# EAGLE library part XCV400E_BG432 (library xilinx-xcv)
xcv400e_bg432 edit this description Auto generated by make-symbol-device-package-bsdl.ulp Rev. 26 Source: xcv400e_bg432.bsd
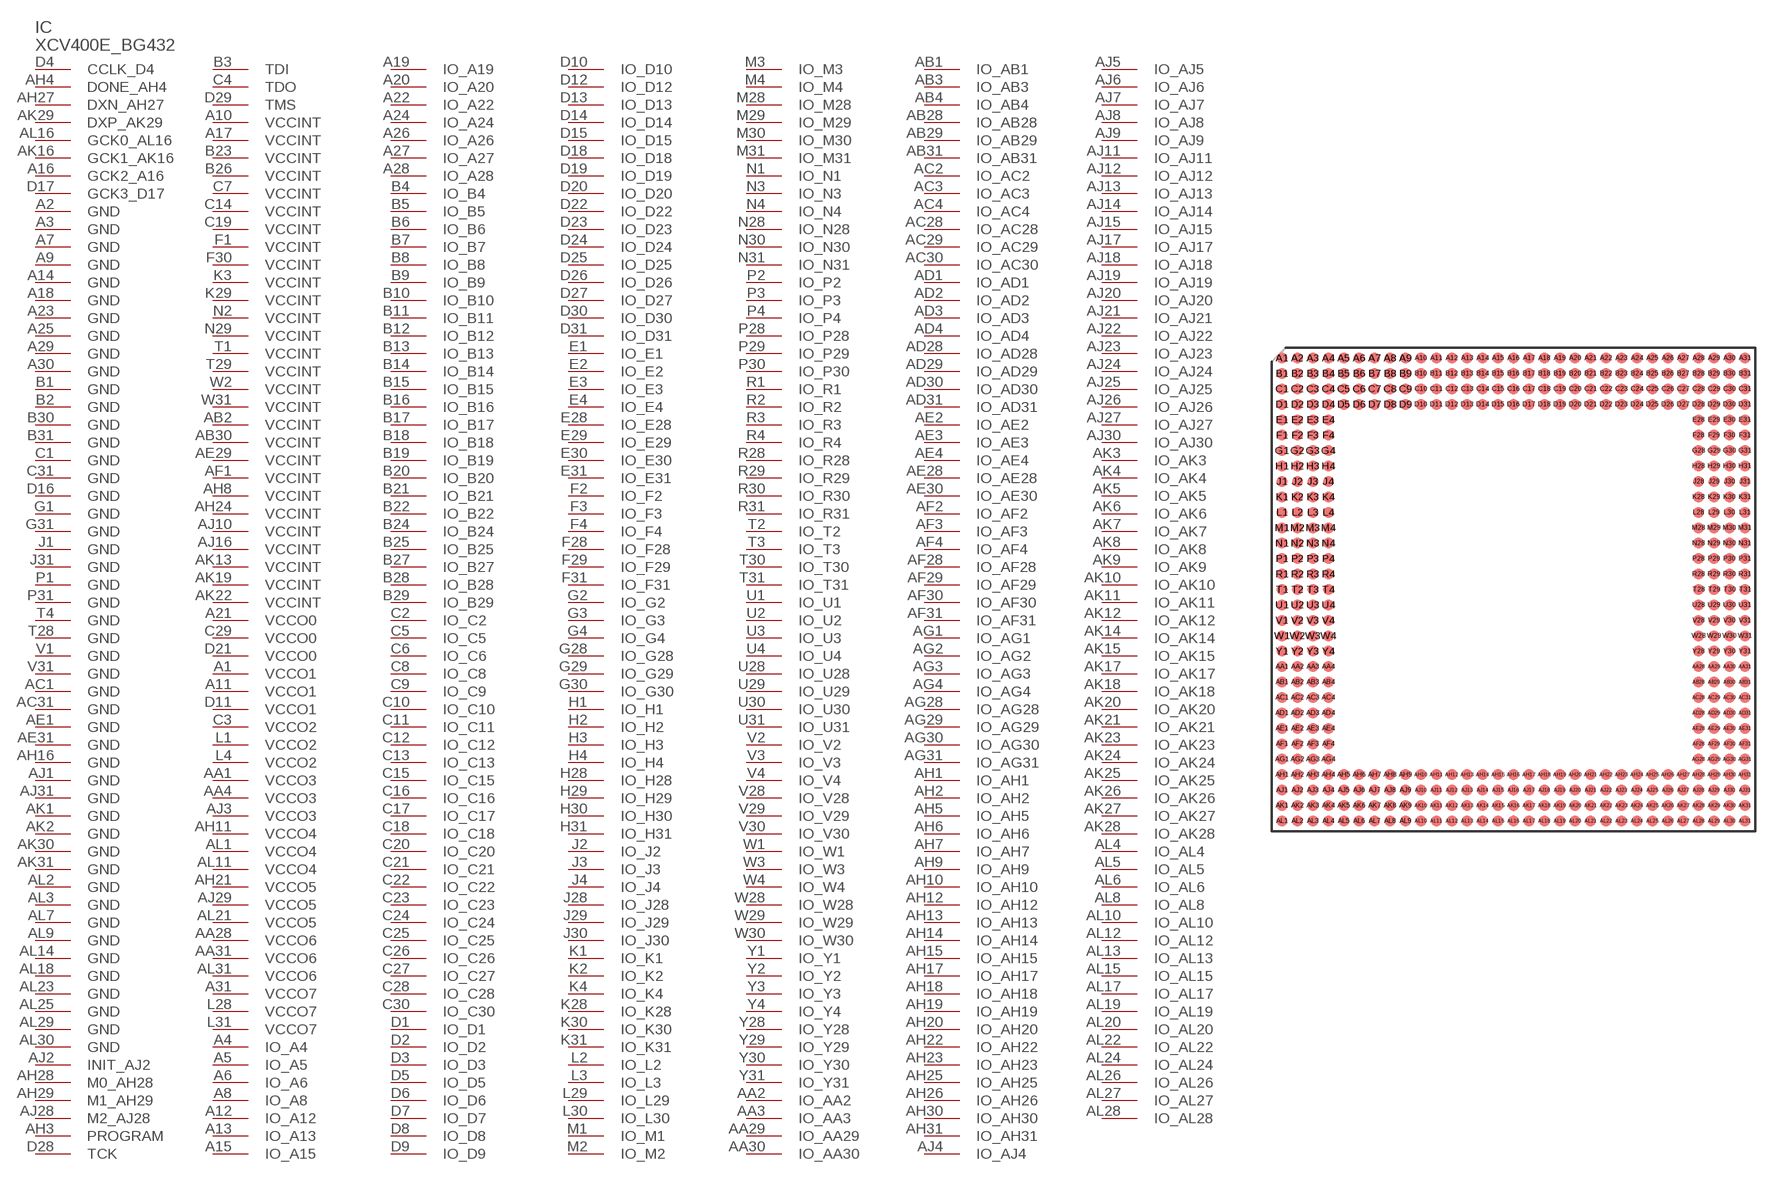
[diagram p98: symbol with the pads of BG432; footprint BG432]

Designator prefix IC

## XCV400E_BG432 (OC_FARNELL: unknown; OC_NEWARK: unknown)  [BG432]
A1  VCCO1  pwr
A2  GND  pwr
A3  GND  pwr
A4  IO_A4
A5  IO_A5
A6  IO_A6
A7  GND  pwr
A8  IO_A8
A9  GND  pwr
A10  VCCINT  pwr
A11  VCCO1  pwr
A12  IO_A12
A13  IO_A13
A14  GND  pwr
A15  IO_A15
A16  GCK2_A16  in
A17  VCCINT  pwr
A18  GND  pwr
A19  IO_A19
A20  IO_A20
A21  VCCO0  pwr
A22  IO_A22
A23  GND  pwr
A24  IO_A24
A25  GND  pwr
A26  IO_A26
A27  IO_A27
A28  IO_A28
A29  GND  pwr
A30  GND  pwr
A31  VCCO7  pwr
AA1  VCCO3  pwr
AA2  IO_AA2
AA3  IO_AA3
AA4  VCCO3  pwr
AA28  VCCO6  pwr
AA29  IO_AA29
AA30  IO_AA30
AA31  VCCO6  pwr
AB1  IO_AB1
AB2  VCCINT  pwr
AB3  IO_AB3
AB4  IO_AB4
AB28  IO_AB28
AB29  IO_AB29
AB30  VCCINT  pwr
AB31  IO_AB31
AC1  GND  pwr
AC2  IO_AC2
AC3  IO_AC3
AC4  IO_AC4
AC28  IO_AC28
AC29  IO_AC29
AC30  IO_AC30
AC31  GND  pwr
AD1  IO_AD1
AD2  IO_AD2
AD3  IO_AD3
AD4  IO_AD4
AD28  IO_AD28
AD29  IO_AD29
AD30  IO_AD30
AD31  IO_AD31
AE1  GND  pwr
AE2  IO_AE2
AE3  IO_AE3
AE4  IO_AE4
AE28  IO_AE28
AE29  VCCINT  pwr
AE30  IO_AE30
AE31  GND  pwr
AF1  VCCINT  pwr
AF2  IO_AF2
AF3  IO_AF3
AF4  IO_AF4
AF28  IO_AF28
AF29  IO_AF29
AF30  IO_AF30
AF31  IO_AF31
AG1  IO_AG1
AG2  IO_AG2
AG3  IO_AG3
AG4  IO_AG4
AG28  IO_AG28
AG29  IO_AG29
AG30  IO_AG30
AG31  IO_AG31
AH1  IO_AH1
AH2  IO_AH2
AH3  PROGRAM  in
AH4  DONE_AH4
AH5  IO_AH5
AH6  IO_AH6
AH7  IO_AH7
AH8  VCCINT  pwr
AH9  IO_AH9
AH10  IO_AH10
AH11  VCCO4  pwr
AH12  IO_AH12
AH13  IO_AH13
AH14  IO_AH14
AH15  IO_AH15
AH16  GND  pwr
AH17  IO_AH17
AH18  IO_AH18
AH19  IO_AH19
AH20  IO_AH20
AH21  VCCO5  pwr
AH22  IO_AH22
AH23  IO_AH23
AH24  VCCINT  pwr
AH25  IO_AH25
AH26  IO_AH26
AH27  DXN_AH27  pas
AH28  M0_AH28  in
AH29  M1_AH29  in
AH30  IO_AH30
AH31  IO_AH31
AJ1  GND  pwr
AJ2  INIT_AJ2
AJ3  VCCO3  pwr
AJ4  IO_AJ4
AJ5  IO_AJ5
AJ6  IO_AJ6
AJ7  IO_AJ7
AJ8  IO_AJ8
AJ9  IO_AJ9
AJ10  VCCINT  pwr
AJ11  IO_AJ11
AJ12  IO_AJ12
AJ13  IO_AJ13
AJ14  IO_AJ14
AJ15  IO_AJ15
AJ16  VCCINT  pwr
AJ17  IO_AJ17
AJ18  IO_AJ18
AJ19  IO_AJ19
AJ20  IO_AJ20
AJ21  IO_AJ21
AJ22  IO_AJ22
AJ23  IO_AJ23
AJ24  IO_AJ24
AJ25  IO_AJ25
AJ26  IO_AJ26
AJ27  IO_AJ27
AJ28  M2_AJ28  in
AJ29  VCCO5  pwr
AJ30  IO_AJ30
AJ31  GND  pwr
AK1  GND  pwr
AK2  GND  pwr
AK3  IO_AK3
AK4  IO_AK4
AK5  IO_AK5
AK6  IO_AK6
AK7  IO_AK7
AK8  IO_AK8
AK9  IO_AK9
AK10  IO_AK10
AK11  IO_AK11
AK12  IO_AK12
AK13  VCCINT  pwr
AK14  IO_AK14
AK15  IO_AK15
AK16  GCK1_AK16  in
AK17  IO_AK17
AK18  IO_AK18
AK19  VCCINT  pwr
AK20  IO_AK20
AK21  IO_AK21
AK22  VCCINT  pwr
AK23  IO_AK23
AK24  IO_AK24
AK25  IO_AK25
AK26  IO_AK26
AK27  IO_AK27
AK28  IO_AK28
AK29  DXP_AK29  pas
AK30  GND  pwr
AK31  GND  pwr
AL1  VCCO4  pwr
AL2  GND  pwr
AL3  GND  pwr
AL4  IO_AL4
AL5  IO_AL5
AL6  IO_AL6
AL7  GND  pwr
AL8  IO_AL8
AL9  GND  pwr
AL10  IO_AL10
AL11  VCCO4  pwr
AL12  IO_AL12
AL13  IO_AL13
AL14  GND  pwr
AL15  IO_AL15
AL16  GCK0_AL16  in
AL17  IO_AL17
AL18  GND  pwr
AL19  IO_AL19
AL20  IO_AL20
AL21  VCCO5  pwr
AL22  IO_AL22
AL23  GND  pwr
AL24  IO_AL24
AL25  GND  pwr
AL26  IO_AL26
AL27  IO_AL27
AL28  IO_AL28
AL29  GND  pwr
AL30  GND  pwr
AL31  VCCO6  pwr
B1  GND  pwr
B2  GND  pwr
B3  TDI  in
B4  IO_B4
B5  IO_B5
B6  IO_B6
B7  IO_B7
B8  IO_B8
B9  IO_B9
B10  IO_B10
B11  IO_B11
B12  IO_B12
B13  IO_B13
B14  IO_B14
B15  IO_B15
B16  IO_B16
B17  IO_B17
B18  IO_B18
B19  IO_B19
B20  IO_B20
B21  IO_B21
B22  IO_B22
B23  VCCINT  pwr
B24  IO_B24
B25  IO_B25
B26  VCCINT  pwr
B27  IO_B27
B28  IO_B28
B29  IO_B29
B30  GND  pwr
B31  GND  pwr
C1  GND  pwr
C2  IO_C2
C3  VCCO2  pwr
C4  TDO  out
C5  IO_C5
C6  IO_C6
C7  VCCINT  pwr
C8  IO_C8
C9  IO_C9
C10  IO_C10
C11  IO_C11
C12  IO_C12
C13  IO_C13
C14  VCCINT  pwr
C15  IO_C15
C16  IO_C16
C17  IO_C17
C18  IO_C18
C19  VCCINT  pwr
C20  IO_C20
C21  IO_C21
C22  IO_C22
C23  IO_C23
C24  IO_C24
C25  IO_C25
C26  IO_C26
C27  IO_C27
C28  IO_C28
C29  VCCO0  pwr
C30  IO_C30
C31  GND  pwr
D1  IO_D1
D2  IO_D2
D3  IO_D3
D4  CCLK_D4
D5  IO_D5
D6  IO_D6
D7  IO_D7
D8  IO_D8
D9  IO_D9
D10  IO_D10
D11  VCCO1  pwr
D12  IO_D12
D13  IO_D13
D14  IO_D14
D15  IO_D15
D16  GND  pwr
D17  GCK3_D17  in
D18  IO_D18
D19  IO_D19
D20  IO_D20
D21  VCCO0  pwr
D22  IO_D22
D23  IO_D23
D24  IO_D24
D25  IO_D25
D26  IO_D26
D27  IO_D27
D28  TCK  in
D29  TMS  in
D30  IO_D30
D31  IO_D31
E1  IO_E1
E2  IO_E2
E3  IO_E3
E4  IO_E4
E28  IO_E28
E29  IO_E29
E30  IO_E30
E31  IO_E31
F1  VCCINT  pwr
F2  IO_F2
F3  IO_F3
F4  IO_F4
F28  IO_F28
F29  IO_F29
F30  VCCINT  pwr
F31  IO_F31
G1  GND  pwr
G2  IO_G2
G3  IO_G3
G4  IO_G4
G28  IO_G28
G29  IO_G29
G30  IO_G30
G31  GND  pwr
H1  IO_H1
H2  IO_H2
H3  IO_H3
H4  IO_H4
H28  IO_H28
H29  IO_H29
H30  IO_H30
H31  IO_H31
J1  GND  pwr
J2  IO_J2
J3  IO_J3
J4  IO_J4
J28  IO_J28
J29  IO_J29
J30  IO_J30
J31  GND  pwr
K1  IO_K1
K2  IO_K2
K3  VCCINT  pwr
K4  IO_K4
K28  IO_K28
K29  VCCINT  pwr
K30  IO_K30
K31  IO_K31
L1  VCCO2  pwr
L2  IO_L2
L3  IO_L3
L4  VCCO2  pwr
L28  VCCO7  pwr
L29  IO_L29
L30  IO_L30
L31  VCCO7  pwr
M1  IO_M1
M2  IO_M2
M3  IO_M3
M4  IO_M4
M28  IO_M28
M29  IO_M29
M30  IO_M30
M31  IO_M31
N1  IO_N1
N2  VCCINT  pwr
N3  IO_N3
N4  IO_N4
N28  IO_N28
N29  VCCINT  pwr
N30  IO_N30
N31  IO_N31
P1  GND  pwr
P2  IO_P2
P3  IO_P3
P4  IO_P4
P28  IO_P28
P29  IO_P29
P30  IO_P30
P31  GND  pwr
R1  IO_R1
R2  IO_R2
R3  IO_R3
R4  IO_R4
R28  IO_R28
R29  IO_R29
R30  IO_R30
R31  IO_R31
T1  VCCINT  pwr
T2  IO_T2
T3  IO_T3
T4  GND  pwr
T28  GND  pwr
T29  VCCINT  pwr
T30  IO_T30
T31  IO_T31
U1  IO_U1
U2  IO_U2
U3  IO_U3
U4  IO_U4
U28  IO_U28
U29  IO_U29
U30  IO_U30
U31  IO_U31
V1  GND  pwr
V2  IO_V2
V3  IO_V3
V4  IO_V4
V28  IO_V28
V29  IO_V29
V30  IO_V30
V31  GND  pwr
W1  IO_W1
W2  VCCINT  pwr
W3  IO_W3
W4  IO_W4
W28  IO_W28
W29  IO_W29
W30  IO_W30
W31  VCCINT  pwr
Y1  IO_Y1
Y2  IO_Y2
Y3  IO_Y3
Y4  IO_Y4
Y28  IO_Y28
Y29  IO_Y29
Y30  IO_Y30
Y31  IO_Y31

## Footprint BG432 (pad centres in mm)
xcv300_bg432 edit this description Auto generated by make-symbol-device-package-bsdl.ulp Rev. 26 Source: xcv300_bg432.bsd
smd 0.9 x 0.9: A1 -19.05,19.05; A2 -17.78,19.05; A3 -16.51,19.05; A4 -15.24,19.05; A5 -13.97,19.05; A6 -12.7,19.05; A7 -11.43,19.05; A8 -10.16,19.05; A9 -8.89,19.05; A10 -7.62,19.05; A11 -6.35,19.05; A12 -5.08,19.05; A13 -3.81,19.05; A14 -2.54,19.05; A15 -1.27,19.05; A16 0,19.05; A17 1.27,19.05; A18 2.54,19.05; A19 3.81,19.05; A20 5.08,19.05; A21 6.35,19.05; A22 7.62,19.05; A23 8.89,19.05; A24 10.16,19.05; A25 11.43,19.05; A26 12.7,19.05; A27 13.97,19.05; A28 15.24,19.05; A29 16.51,19.05; A30 17.78,19.05; A31 19.05,19.05; AA1 -19.05,-6.35; AA2 -17.78,-6.35; AA3 -16.51,-6.35; AA4 -15.24,-6.35; AA28 15.24,-6.35; AA29 16.51,-6.35; AA30 17.78,-6.35; AA31 19.05,-6.35; AB1 -19.05,-7.62; AB2 -17.78,-7.62; AB3 -16.51,-7.62; AB4 -15.24,-7.62; AB28 15.24,-7.62; AB29 16.51,-7.62; AB30 17.78,-7.62; AB31 19.05,-7.62; AC1 -19.05,-8.89; AC2 -17.78,-8.89; AC3 -16.51,-8.89; AC4 -15.24,-8.89; AC28 15.24,-8.89; AC29 16.51,-8.89; AC30 17.78,-8.89; AC31 19.05,-8.89; AD1 -19.05,-10.16; AD2 -17.78,-10.16; AD3 -16.51,-10.16; AD4 -15.24,-10.16; AD28 15.24,-10.16; AD29 16.51,-10.16; AD30 17.78,-10.16; AD31 19.05,-10.16; AE1 -19.05,-11.43; AE2 -17.78,-11.43; AE3 -16.51,-11.43; AE4 -15.24,-11.43; AE28 15.24,-11.43; AE29 16.51,-11.43; AE30 17.78,-11.43; AE31 19.05,-11.43; AF1 -19.05,-12.7; AF2 -17.78,-12.7; AF3 -16.51,-12.7; AF4 -15.24,-12.7; AF28 15.24,-12.7; AF29 16.51,-12.7; AF30 17.78,-12.7; AF31 19.05,-12.7; AG1 -19.05,-13.97; AG2 -17.78,-13.97; AG3 -16.51,-13.97; AG4 -15.24,-13.97; AG28 15.24,-13.97; AG29 16.51,-13.97; AG30 17.78,-13.97; AG31 19.05,-13.97; AH1 -19.05,-15.24; AH2 -17.78,-15.24; AH3 -16.51,-15.24; AH4 -15.24,-15.24; AH5 -13.97,-15.24; AH6 -12.7,-15.24; AH7 -11.43,-15.24; AH8 -10.16,-15.24; AH9 -8.89,-15.24; AH10 -7.62,-15.24; AH11 -6.35,-15.24; AH12 -5.08,-15.24; AH13 -3.81,-15.24; AH14 -2.54,-15.24; AH15 -1.27,-15.24; AH16 0,-15.24; AH17 1.27,-15.24; AH18 2.54,-15.24; AH19 3.81,-15.24; AH20 5.08,-15.24; AH21 6.35,-15.24; AH22 7.62,-15.24; AH23 8.89,-15.24; AH24 10.16,-15.24; AH25 11.43,-15.24; AH26 12.7,-15.24; AH27 13.97,-15.24; AH28 15.24,-15.24; AH29 16.51,-15.24; AH30 17.78,-15.24; AH31 19.05,-15.24; AJ1 -19.05,-16.51; AJ2 -17.78,-16.51; AJ3 -16.51,-16.51; AJ4 -15.24,-16.51; AJ5 -13.97,-16.51; AJ6 -12.7,-16.51; AJ7 -11.43,-16.51; AJ8 -10.16,-16.51; AJ9 -8.89,-16.51; AJ10 -7.62,-16.51; AJ11 -6.35,-16.51; AJ12 -5.08,-16.51; AJ13 -3.81,-16.51; AJ14 -2.54,-16.51; AJ15 -1.27,-16.51; AJ16 0,-16.51; AJ17 1.27,-16.51; AJ18 2.54,-16.51; AJ19 3.81,-16.51; AJ20 5.08,-16.51; AJ21 6.35,-16.51; AJ22 7.62,-16.51; AJ23 8.89,-16.51; AJ24 10.16,-16.51; AJ25 11.43,-16.51; AJ26 12.7,-16.51; AJ27 13.97,-16.51; AJ28 15.24,-16.51; AJ29 16.51,-16.51; AJ30 17.78,-16.51; AJ31 19.05,-16.51; AK1 -19.05,-17.78; AK2 -17.78,-17.78; AK3 -16.51,-17.78; AK4 -15.24,-17.78; AK5 -13.97,-17.78; AK6 -12.7,-17.78; AK7 -11.43,-17.78; AK8 -10.16,-17.78; AK9 -8.89,-17.78; AK10 -7.62,-17.78; AK11 -6.35,-17.78; AK12 -5.08,-17.78; AK13 -3.81,-17.78; AK14 -2.54,-17.78; AK15 -1.27,-17.78; AK16 0,-17.78; AK17 1.27,-17.78; AK18 2.54,-17.78; AK19 3.81,-17.78; AK20 5.08,-17.78; AK21 6.35,-17.78; AK22 7.62,-17.78; AK23 8.89,-17.78; AK24 10.16,-17.78; AK25 11.43,-17.78; AK26 12.7,-17.78; AK27 13.97,-17.78; AK28 15.24,-17.78; AK29 16.51,-17.78; AK30 17.78,-17.78; AK31 19.05,-17.78; AL1 -19.05,-19.05; AL2 -17.78,-19.05; AL3 -16.51,-19.05; AL4 -15.24,-19.05; AL5 -13.97,-19.05; AL6 -12.7,-19.05; AL7 -11.43,-19.05; AL8 -10.16,-19.05; AL9 -8.89,-19.05; AL10 -7.62,-19.05; AL11 -6.35,-19.05; AL12 -5.08,-19.05; AL13 -3.81,-19.05; AL14 -2.54,-19.05; AL15 -1.27,-19.05; AL16 0,-19.05; AL17 1.27,-19.05; AL18 2.54,-19.05; AL19 3.81,-19.05; AL20 5.08,-19.05; AL21 6.35,-19.05; AL22 7.62,-19.05; AL23 8.89,-19.05; AL24 10.16,-19.05; AL25 11.43,-19.05; AL26 12.7,-19.05; AL27 13.97,-19.05; AL28 15.24,-19.05; AL29 16.51,-19.05; AL30 17.78,-19.05; AL31 19.05,-19.05; B1 -19.05,17.78; B2 -17.78,17.78; B3 -16.51,17.78; B4 -15.24,17.78; B5 -13.97,17.78; B6 -12.7,17.78; B7 -11.43,17.78; B8 -10.16,17.78; B9 -8.89,17.78; B10 -7.62,17.78; B11 -6.35,17.78; B12 -5.08,17.78; B13 -3.81,17.78; B14 -2.54,17.78; B15 -1.27,17.78; B16 0,17.78; B17 1.27,17.78; B18 2.54,17.78; B19 3.81,17.78; B20 5.08,17.78; B21 6.35,17.78; B22 7.62,17.78; B23 8.89,17.78; B24 10.16,17.78; B25 11.43,17.78; B26 12.7,17.78; B27 13.97,17.78; B28 15.24,17.78; B29 16.51,17.78; B30 17.78,17.78; B31 19.05,17.78; C1 -19.05,16.51; C2 -17.78,16.51; C3 -16.51,16.51; C4 -15.24,16.51; C5 -13.97,16.51; C6 -12.7,16.51; C7 -11.43,16.51; C8 -10.16,16.51; C9 -8.89,16.51; C10 -7.62,16.51; C11 -6.35,16.51; C12 -5.08,16.51; C13 -3.81,16.51; C14 -2.54,16.51; C15 -1.27,16.51; C16 0,16.51; C17 1.27,16.51; C18 2.54,16.51; C19 3.81,16.51; C20 5.08,16.51; C21 6.35,16.51; C22 7.62,16.51; C23 8.89,16.51; C24 10.16,16.51; C25 11.43,16.51; C26 12.7,16.51; C27 13.97,16.51; C28 15.24,16.51; C29 16.51,16.51; C30 17.78,16.51; C31 19.05,16.51; D1 -19.05,15.24; D2 -17.78,15.24; D3 -16.51,15.24; D4 -15.24,15.24; D5 -13.97,15.24; D6 -12.7,15.24; D7 -11.43,15.24; D8 -10.16,15.24; D9 -8.89,15.24; D10 -7.62,15.24; D11 -6.35,15.24; D12 -5.08,15.24; D13 -3.81,15.24; D14 -2.54,15.24; D15 -1.27,15.24; D16 0,15.24; D17 1.27,15.24; D18 2.54,15.24; D19 3.81,15.24; D20 5.08,15.24; D21 6.35,15.24; D22 7.62,15.24; D23 8.89,15.24; D24 10.16,15.24; D25 11.43,15.24; D26 12.7,15.24; D27 13.97,15.24; D28 15.24,15.24; D29 16.51,15.24; D30 17.78,15.24; D31 19.05,15.24; E1 -19.05,13.97; E2 -17.78,13.97; E3 -16.51,13.97; E4 -15.24,13.97; E28 15.24,13.97; E29 16.51,13.97; E30 17.78,13.97; E31 19.05,13.97; F1 -19.05,12.7; F2 -17.78,12.7; F3 -16.51,12.7; F4 -15.24,12.7; F28 15.24,12.7; F29 16.51,12.7; F30 17.78,12.7; F31 19.05,12.7; G1 -19.05,11.43; G2 -17.78,11.43; G3 -16.51,11.43; G4 -15.24,11.43; G28 15.24,11.43; G29 16.51,11.43; G30 17.78,11.43; G31 19.05,11.43; H1 -19.05,10.16; H2 -17.78,10.16; H3 -16.51,10.16; H4 -15.24,10.16; H28 15.24,10.16; H29 16.51,10.16; H30 17.78,10.16; H31 19.05,10.16; J1 -19.05,8.89; J2 -17.78,8.89; J3 -16.51,8.89; J4 -15.24,8.89; J28 15.24,8.89; J29 16.51,8.89; J30 17.78,8.89; J31 19.05,8.89; K1 -19.05,7.62; K2 -17.78,7.62; K3 -16.51,7.62; K4 -15.24,7.62; K28 15.24,7.62; K29 16.51,7.62; K30 17.78,7.62; K31 19.05,7.62; L1 -19.05,6.35; L2 -17.78,6.35; L3 -16.51,6.35; L4 -15.24,6.35; L28 15.24,6.35; L29 16.51,6.35; L30 17.78,6.35; L31 19.05,6.35; M1 -19.05,5.08; M2 -17.78,5.08; M3 -16.51,5.08; M4 -15.24,5.08; M28 15.24,5.08; M29 16.51,5.08; M30 17.78,5.08; M31 19.05,5.08; N1 -19.05,3.81; N2 -17.78,3.81; N3 -16.51,3.81; N4 -15.24,3.81; N28 15.24,3.81; N29 16.51,3.81; N30 17.78,3.81; N31 19.05,3.81; P1 -19.05,2.54; P2 -17.78,2.54; P3 -16.51,2.54; P4 -15.24,2.54; P28 15.24,2.54; P29 16.51,2.54; P30 17.78,2.54; P31 19.05,2.54; R1 -19.05,1.27; R2 -17.78,1.27; R3 -16.51,1.27; R4 -15.24,1.27; R28 15.24,1.27; R29 16.51,1.27; R30 17.78,1.27; R31 19.05,1.27; T1 -19.05,0; T2 -17.78,0; T3 -16.51,0; T4 -15.24,0; T28 15.24,0; T29 16.51,0; T30 17.78,0; T31 19.05,0; U1 -19.05,-1.27; U2 -17.78,-1.27; U3 -16.51,-1.27; U4 -15.24,-1.27; U28 15.24,-1.27; U29 16.51,-1.27; U30 17.78,-1.27; U31 19.05,-1.27; V1 -19.05,-2.54; V2 -17.78,-2.54; V3 -16.51,-2.54; V4 -15.24,-2.54; V28 15.24,-2.54; V29 16.51,-2.54; V30 17.78,-2.54; V31 19.05,-2.54; W1 -19.05,-3.81; W2 -17.78,-3.81; W3 -16.51,-3.81; W4 -15.24,-3.81; W28 15.24,-3.81; W29 16.51,-3.81; W30 17.78,-3.81; W31 19.05,-3.81; Y1 -19.05,-5.08; Y2 -17.78,-5.08; Y3 -16.51,-5.08; Y4 -15.24,-5.08; Y28 15.24,-5.08; Y29 16.51,-5.08; Y30 17.78,-5.08; Y31 19.05,-5.08